# Altium footprint library SM_DIODE_SOT23_A_COM_C.PcbLib: 1 footprints
Each footprint in its own frame and in the unit in brackets; x right, y up, seen from the top. Pads: shape width x height; smd on the part's side, far side on the other; paste and mask are expansions set on the pad; w line width, h text height; cw(c..) or ccw(c..) is an arc to the next point about the centre after c.
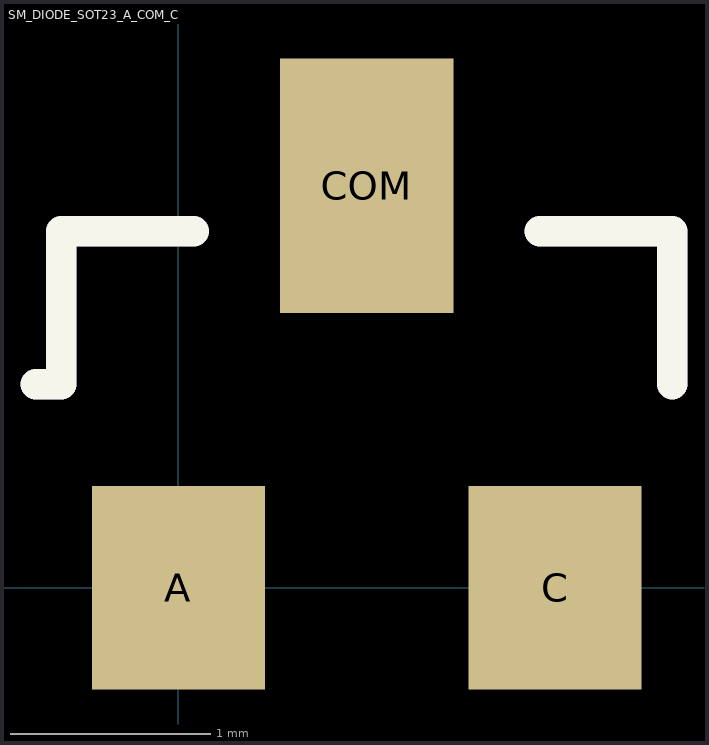
[diagram p0: the footprint, top view; thin cyan lines are the x and y axes]

## SM_DIODE_SOT23_A_COM_C [mil]
pads (3):
  rect 34x40 smd: A(0,0) C(74,0)
  rect 34x50 smd: COM(37,79)
Top Overlay:
  lines w6: -28,40 -23,40 -23,70 3,70 ; 71,70 97,70 97,40
Mechanical 1:
  lines w6: -28,40 -23,40 -23,70 3,70 ; 71,70 97,70 97,40